# EAGLE library part DS01C-254-L-03BE (library Group Electornics Library v80)
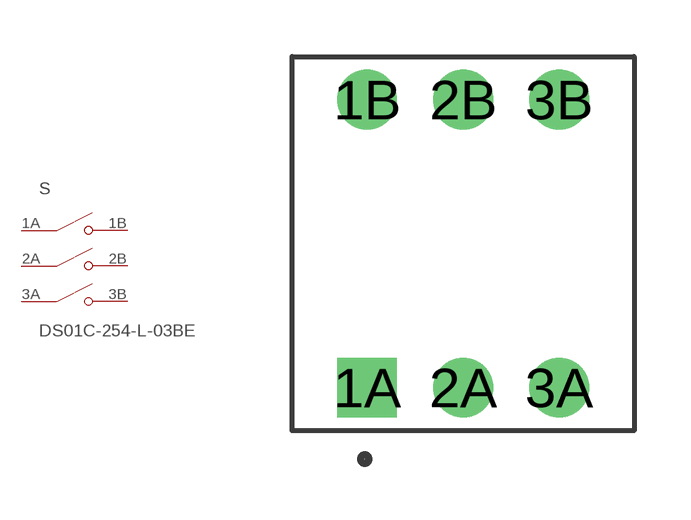
[diagram p8: symbol with the pads of SW_DS01C-254-L-03BE; footprint SW_DS01C-254-L-03BE]

Designator prefix S

## DS01C-254-L-03BE (MANUFACTURER: CUI; MAXIMUM_PACKAGE_HEIGHT: 7.0mm; PARTREV: 1.0; STANDARD: Manufacturer recommendations)  [SW_DS01C-254-L-03BE]
1A  COM1  pas
1B  NO1  pas
2A  COM2  pas
2B  NO2  pas
3A  COM3  pas
3B  NO3  pas

## Footprint SW_DS01C-254-L-03BE (pad centres in mm)
drill 1 pad 1.58 square: 1A -2.54,-3.81
drill 1 pad 1.58: 1B -2.54,3.81; 2A 0,-3.81; 2B 0,3.81; 3A 2.54,-3.81; 3B 2.54,3.81